# EAGLE library part AD9515 (library NewSDR)
Analog Devices 1.6 GHz Clock Distribution IC, Dividers, Delay Adjust, Two Outputs
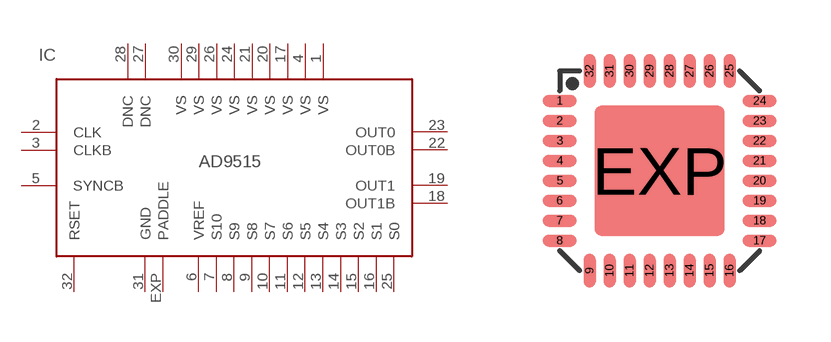
[diagram p1: symbol with the pads of LFCSP32; footprint LFCSP32]

Designator prefix IC

## AD9515  [LFCSP32]
1  VS  pwr
2  CLK  in
3  CLKB  in
4  VS  pwr
5  SYNCB  in
6  VREF  out
7  S10  in
8  S9  in
9  S8  in
10  S7  in
11  S6  in
12  S5  in
13  S4  in
14  S3  in
15  S2  in
16  S1  in
17  VS  pwr
18  OUT1B  out
19  OUT1  out
20  VS  pwr
21  VS  pwr
22  OUT0B  out
23  OUT0  out
24  VS  pwr
25  S0  in
26  VS  pwr
27  DNC  nc
28  DNC  nc
29  VS  pwr
30  VS  pwr
31  GND  pwr
32  RSET  in
EXP  PADDLE  pwr

## Footprint LFCSP32 (pad centres in mm)
32-Lead Lead Frame Chip Scale Package 5 mm × 5 mm (CP-32) Source: www.analog.com
smd 0.85 x 0.3: 1 -2.5,1.75; 2 -2.5,1.25; 3 -2.5,0.75; 4 -2.5,0.25; 5 -2.5,-0.25; 6 -2.5,-0.75; 7 -2.5,-1.25; 8 -2.5,-1.75; 17 2.5,-1.75; 18 2.5,-1.25; 19 2.5,-0.75; 20 2.5,-0.25; 21 2.5,0.25; 22 2.5,0.75; 23 2.5,1.25; 24 2.5,1.75
smd 0.3 x 0.85: 9 -1.75,-2.5; 10 -1.25,-2.5; 11 -0.75,-2.5; 12 -0.25,-2.5; 13 0.25,-2.5; 14 0.75,-2.5; 15 1.25,-2.5; 16 1.75,-2.5; 25 1.75,2.5; 26 1.25,2.5; 27 0.75,2.5; 28 0.25,2.5; 29 -0.25,2.5; 30 -0.75,2.5; 31 -1.25,2.5; 32 -1.75,2.5
smd 3.25 x 3.25: EXP 0,0